# Altium schematic symbol library kmilo17pet-Microchip_MixedSignal.SchLib: 1399 symbols (part 4 of 36)
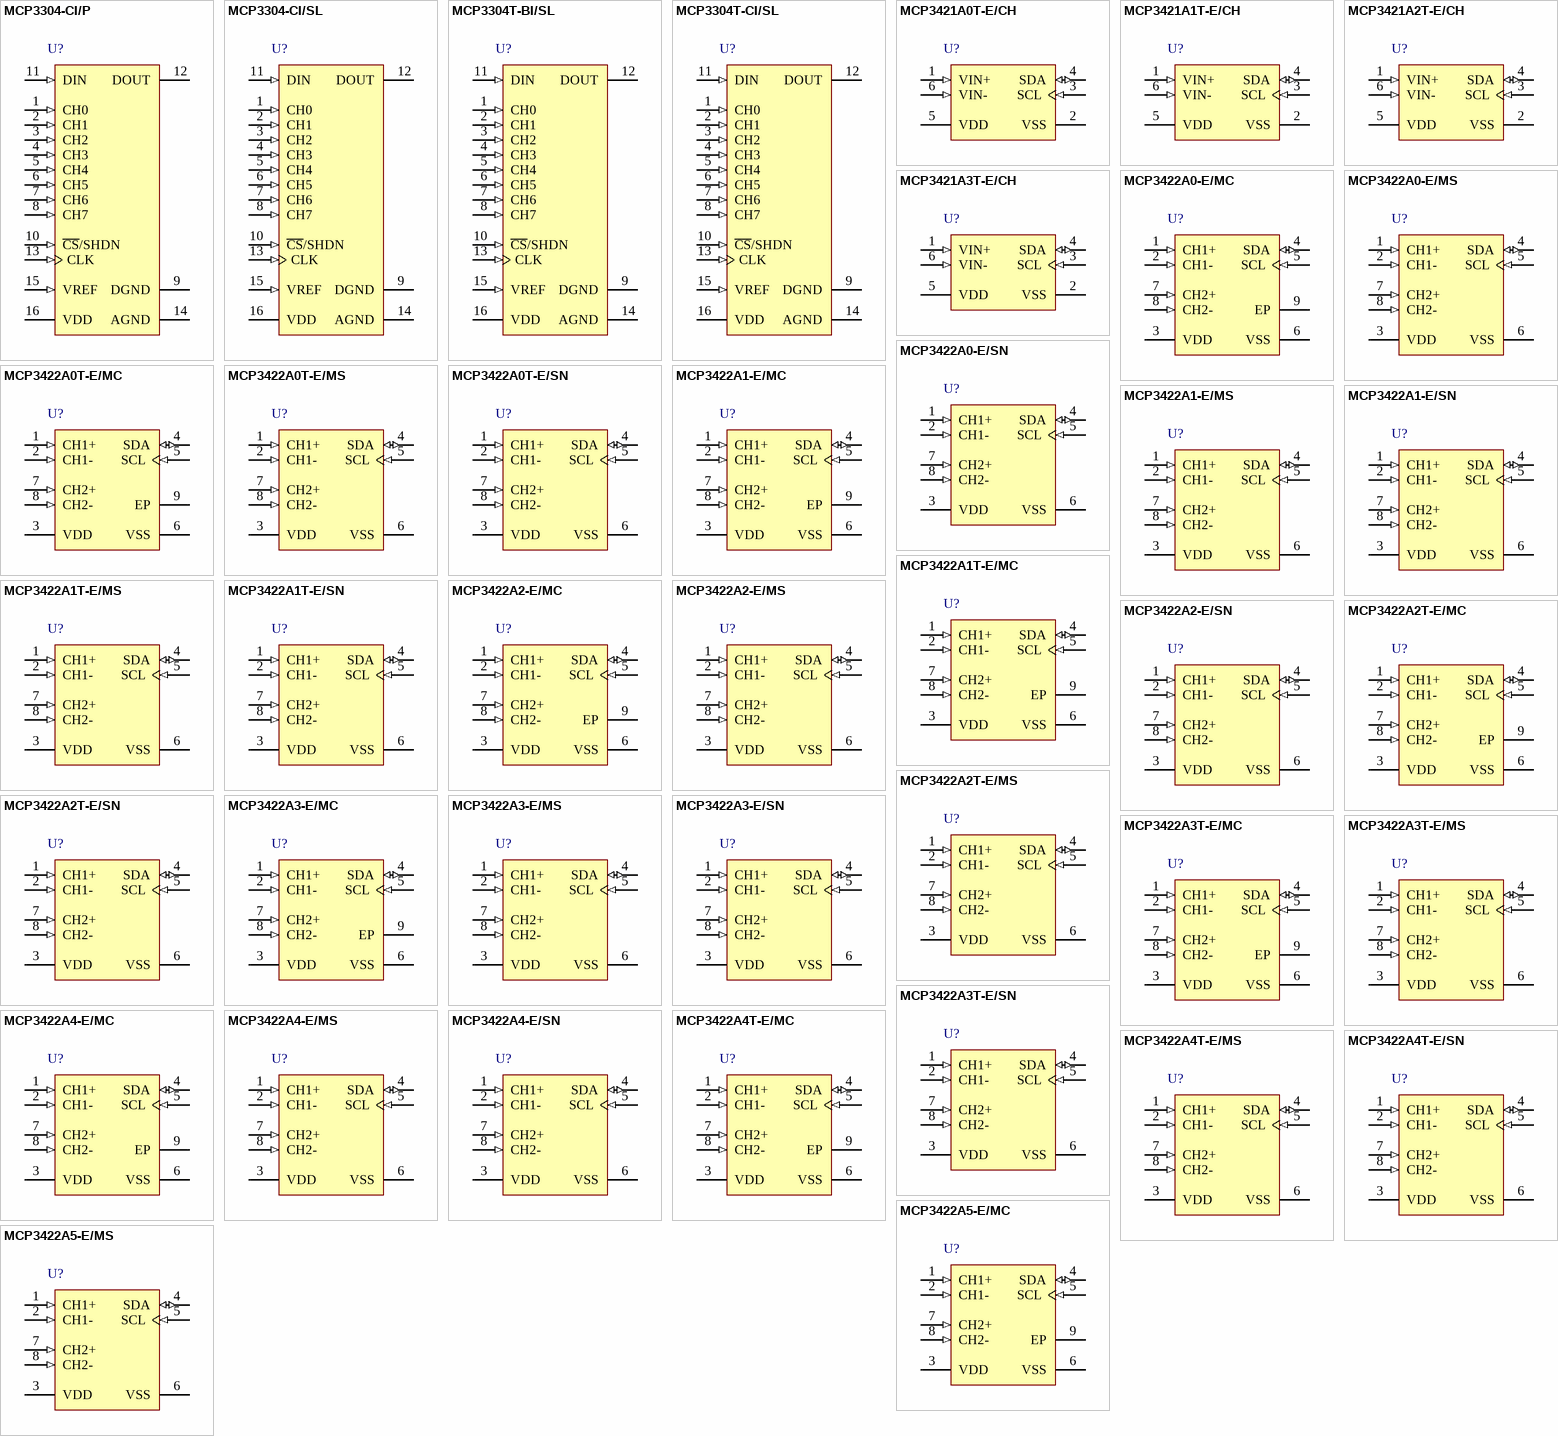
[diagram p47: symbols MCP3304-CI/P to MCP3422A5-E/MS]

## MCP3422A1-E/MC
designator U?
18-Bit, 4-Channel Analog-to-Digital Converter with I2C Interface and On-Board Reference, 8-pin DFN, Extended Temperature; Manufacturer: Microchip; PartNumber: MCP3422A1-E/MC; DatasheetVersion: revC, Aug-2009; PackageVersion: revBB, Aug-2009; PackageReference: DFN-MC8; PackageDescription: 8-Lead Plastic Dual Flat, No Lead Package (MC) - 2x3x0.9mm Body [DFN]; Supplier 1: Digi-Key; Supplier Part Number 1: MCP3422A1-E/MC-ND; Mounting Technology: Surface Mount; ComponentLink1Description: Manufacturer URL; ComponentLink1URL: http://www.microchip.com/; ComponentLink2Description: Datasheet; ComponentLink2URL: http://ww1.microchip.com/downloads/en/DeviceDoc/22088c.pdf; ComponentLink3Description: Package Specification; ComponentLink3URL: http://www.microchip.com/stellent/groups/techpub_sg/documents/packagingspec/en012702.pdf
footprint DFN-MC8 (SON, 8-Leads, Body 2x3mm, Pitch 0.5mm, Microchip Recommended)
pins: 1 CH1+ (in), 2 CH1- (in), 3 VDD (power), 4 SDA (io), 5 SCL (in), 6 VSS (power), 7 CH2+ (in), 8 CH2- (in), 9 EP

## MCP3422A1-E/MS
designator U?
18-Bit, 4-Channel Analog-to-Digital Converter with I2C Interface and On-Board Reference, 8-pin MSOP, Extended Temperature; Manufacturer: Microchip; PartNumber: MCP3422A1-E/MS; DatasheetVersion: revC, Aug-2009; PackageVersion: revBB, Aug-2009; PackageReference: MSOP-MS8; PackageDescription: 8-Lead Plastic Micro Small Outline Package (MS) [MSOP]; Supplier 1: Digi-Key; Supplier Part Number 1: MCP3422A1-E/MS-ND; Mounting Technology: Surface Mount; ComponentLink1Description: Manufacturer URL; ComponentLink1URL: http://www.microchip.com/; ComponentLink2Description: Datasheet; ComponentLink2URL: http://ww1.microchip.com/downloads/en/DeviceDoc/22088c.pdf; ComponentLink3Description: Package Specification; ComponentLink3URL: http://www.microchip.com/stellent/groups/techpub_sg/documents/packagingspec/en012702.pdf
footprint MSOP-MS8_N (TSOP, 8-Leads, Body 3x3mm, Pitch 0.65mm, IPC Medium Density)
footprint MSOP-MS8_L (TSOP, 8-Leads, Body 3x3mm, Pitch 0.65mm, IPC High Density)
footprint MSOP-MS8_M (TSOP, 8-Leads, Body 3x3mm, Pitch 0.65mm, IPC Low Density)
pins: 1 CH1+ (in), 2 CH1- (in), 3 VDD (power), 4 SDA (io), 5 SCL (in), 6 VSS (power), 7 CH2+ (in), 8 CH2- (in)

## MCP3422A1-E/SN
designator U?
18-Bit, 4-Channel Analog-to-Digital Converter with I2C Interface and On-Board Reference, 8-pin SOIC, Extended Temperature; Manufacturer: Microchip; PartNumber: MCP3422A1-E/SN; DatasheetVersion: revC, Aug-2009; PackageVersion: revBB, Aug-2009; PackageReference: SOIC-SN8; PackageDescription: 8-Lead Plastic Small Outline (SN) - Narrow, 3.90mm Body [SOIC]; Supplier 1: Digi-Key; Supplier Part Number 1: MCP3422A1-E/SN-ND; Mounting Technology: Surface Mount; Code_JEDEC: MS-012; Code_IPC: SOIC127P600-8; ComponentLink1Description: Manufacturer URL; ComponentLink1URL: http://www.microchip.com/; ComponentLink2Description: Datasheet; ComponentLink2URL: http://ww1.microchip.com/downloads/en/DeviceDoc/22088c.pdf; ComponentLink3Description: Package Specification; ComponentLink3URL: http://www.microchip.com/stellent/groups/techpub_sg/documents/packagingspec/en012702.pdf
footprint SOIC-SN8_N (SOIC, 8-Leads, Body 4.9x3.8mm, Pitch 1.27mm, IPC Medium Density)
footprint SOIC-SN8_L (SOIC, 8-Leads, Body 4.9x3.8mm, Pitch 1.27mm, IPC High Density)
footprint SOIC-SN8_M (SOIC, 8-Leads, Body 4.9x3.8mm, Pitch 1.27mm, IPC Low Density)
pins: 1 CH1+ (in), 2 CH1- (in), 3 VDD (power), 4 SDA (io), 5 SCL (in), 6 VSS (power), 7 CH2+ (in), 8 CH2- (in)

## MCP3422A1T-E/MC
designator U?
18-Bit, 4-Channel Analog-to-Digital Converter with I2C Interface and On-Board Reference, 8-pin DFN, Extended Temperature, Tape and Reel; Manufacturer: Microchip; PartNumber: MCP3422A1T-E/MC; DatasheetVersion: revC, Aug-2009; PackageVersion: revBB, Aug-2009; PackageReference: DFN-MC8; PackageDescription: 8-Lead Plastic Dual Flat, No Lead Package (MC) - 2x3x0.9mm Body [DFN]; Supplier 1: Digi-Key; Supplier Part Number 1: MCP3422A1T-E/MC-ND; Mounting Technology: Surface Mount; ComponentLink1Description: Manufacturer URL; ComponentLink1URL: http://www.microchip.com/; ComponentLink2Description: Datasheet; ComponentLink2URL: http://ww1.microchip.com/downloads/en/DeviceDoc/22088c.pdf; ComponentLink3Description: Package Specification; ComponentLink3URL: http://www.microchip.com/stellent/groups/techpub_sg/documents/packagingspec/en012702.pdf
footprint DFN-MC8 (SON, 8-Leads, Body 2x3mm, Pitch 0.5mm, Microchip Recommended)
pins: 1 CH1+ (in), 2 CH1- (in), 3 VDD (power), 4 SDA (io), 5 SCL (in), 6 VSS (power), 7 CH2+ (in), 8 CH2- (in), 9 EP

## MCP3422A1T-E/MS
designator U?
18-Bit, 4-Channel Analog-to-Digital Converter with I2C Interface and On-Board Reference, 8-pin MSOP, Extended Temperature, Tape and Reel; Manufacturer: Microchip; PartNumber: MCP3422A1T-E/MS; DatasheetVersion: revC, Aug-2009; PackageVersion: revBB, Aug-2009; PackageReference: MSOP-MS8; PackageDescription: 8-Lead Plastic Micro Small Outline Package (MS) [MSOP]; Supplier 1: Digi-Key; Supplier Part Number 1: MCP3422A1T-E/MS-ND; Mounting Technology: Surface Mount; ComponentLink1Description: Manufacturer URL; ComponentLink1URL: http://www.microchip.com/; ComponentLink2Description: Datasheet; ComponentLink2URL: http://ww1.microchip.com/downloads/en/DeviceDoc/22088c.pdf; ComponentLink3Description: Package Specification; ComponentLink3URL: http://www.microchip.com/stellent/groups/techpub_sg/documents/packagingspec/en012702.pdf
footprint MSOP-MS8_N (TSOP, 8-Leads, Body 3x3mm, Pitch 0.65mm, IPC Medium Density)
footprint MSOP-MS8_L (TSOP, 8-Leads, Body 3x3mm, Pitch 0.65mm, IPC High Density)
footprint MSOP-MS8_M (TSOP, 8-Leads, Body 3x3mm, Pitch 0.65mm, IPC Low Density)
pins: 1 CH1+ (in), 2 CH1- (in), 3 VDD (power), 4 SDA (io), 5 SCL (in), 6 VSS (power), 7 CH2+ (in), 8 CH2- (in)

## MCP3422A1T-E/SN
designator U?
18-Bit, 4-Channel Analog-to-Digital Converter with I2C Interface and On-Board Reference, 8-pin SOIC, Extended Temperature, Tape and Reel; Manufacturer: Microchip; PartNumber: MCP3422A1T-E/SN; DatasheetVersion: revC, Aug-2009; PackageVersion: revBB, Aug-2009; PackageReference: SOIC-SN8; PackageDescription: 8-Lead Plastic Small Outline (SN) - Narrow, 3.90mm Body [SOIC]; Supplier 1: Digi-Key; Supplier Part Number 1: MCP3422A1T-E/SN-ND; Mounting Technology: Surface Mount; Code_JEDEC: MS-012; Code_IPC: SOIC127P600-8; ComponentLink1Description: Manufacturer URL; ComponentLink1URL: http://www.microchip.com/; ComponentLink2Description: Datasheet; ComponentLink2URL: http://ww1.microchip.com/downloads/en/DeviceDoc/22088c.pdf; ComponentLink3Description: Package Specification; ComponentLink3URL: http://www.microchip.com/stellent/groups/techpub_sg/documents/packagingspec/en012702.pdf
footprint SOIC-SN8_N (SOIC, 8-Leads, Body 4.9x3.8mm, Pitch 1.27mm, IPC Medium Density)
footprint SOIC-SN8_L (SOIC, 8-Leads, Body 4.9x3.8mm, Pitch 1.27mm, IPC High Density)
footprint SOIC-SN8_M (SOIC, 8-Leads, Body 4.9x3.8mm, Pitch 1.27mm, IPC Low Density)
pins: 1 CH1+ (in), 2 CH1- (in), 3 VDD (power), 4 SDA (io), 5 SCL (in), 6 VSS (power), 7 CH2+ (in), 8 CH2- (in)

## MCP3422A2-E/MC
designator U?
18-Bit, 4-Channel Analog-to-Digital Converter with I2C Interface and On-Board Reference, 8-pin DFN, Extended Temperature; Manufacturer: Microchip; PartNumber: MCP3422A2-E/MC; DatasheetVersion: revC, Aug-2009; PackageVersion: revBB, Aug-2009; PackageReference: DFN-MC8; PackageDescription: 8-Lead Plastic Dual Flat, No Lead Package (MC) - 2x3x0.9mm Body [DFN]; Supplier 1: Digi-Key; Supplier Part Number 1: MCP3422A2-E/MC-ND; Mounting Technology: Surface Mount; ComponentLink1Description: Manufacturer URL; ComponentLink1URL: http://www.microchip.com/; ComponentLink2Description: Datasheet; ComponentLink2URL: http://ww1.microchip.com/downloads/en/DeviceDoc/22088c.pdf; ComponentLink3Description: Package Specification; ComponentLink3URL: http://www.microchip.com/stellent/groups/techpub_sg/documents/packagingspec/en012702.pdf
footprint DFN-MC8 (SON, 8-Leads, Body 2x3mm, Pitch 0.5mm, Microchip Recommended)
pins: 1 CH1+ (in), 2 CH1- (in), 3 VDD (power), 4 SDA (io), 5 SCL (in), 6 VSS (power), 7 CH2+ (in), 8 CH2- (in), 9 EP

## MCP3422A2-E/MS
designator U?
18-Bit, 4-Channel Analog-to-Digital Converter with I2C Interface and On-Board Reference, 8-pin MSOP, Extended Temperature; Manufacturer: Microchip; PartNumber: MCP3422A2-E/MS; DatasheetVersion: revC, Aug-2009; PackageVersion: revBB, Aug-2009; PackageReference: MSOP-MS8; PackageDescription: 8-Lead Plastic Micro Small Outline Package (MS) [MSOP]; Supplier 1: Digi-Key; Supplier Part Number 1: MCP3422A2-E/MS-ND; Mounting Technology: Surface Mount; ComponentLink1Description: Manufacturer URL; ComponentLink1URL: http://www.microchip.com/; ComponentLink2Description: Datasheet; ComponentLink2URL: http://ww1.microchip.com/downloads/en/DeviceDoc/22088c.pdf; ComponentLink3Description: Package Specification; ComponentLink3URL: http://www.microchip.com/stellent/groups/techpub_sg/documents/packagingspec/en012702.pdf
footprint MSOP-MS8_N (TSOP, 8-Leads, Body 3x3mm, Pitch 0.65mm, IPC Medium Density)
footprint MSOP-MS8_L (TSOP, 8-Leads, Body 3x3mm, Pitch 0.65mm, IPC High Density)
footprint MSOP-MS8_M (TSOP, 8-Leads, Body 3x3mm, Pitch 0.65mm, IPC Low Density)
pins: 1 CH1+ (in), 2 CH1- (in), 3 VDD (power), 4 SDA (io), 5 SCL (in), 6 VSS (power), 7 CH2+ (in), 8 CH2- (in)

## MCP3422A2-E/SN
designator U?
18-Bit, 4-Channel Analog-to-Digital Converter with I2C Interface and On-Board Reference, 8-pin SOIC, Extended Temperature; Manufacturer: Microchip; PartNumber: MCP3422A2-E/SN; DatasheetVersion: revC, Aug-2009; PackageVersion: revBB, Aug-2009; PackageReference: SOIC-SN8; PackageDescription: 8-Lead Plastic Small Outline (SN) - Narrow, 3.90mm Body [SOIC]; Supplier 1: Digi-Key; Supplier Part Number 1: MCP3422A2-E/SN-ND; Mounting Technology: Surface Mount; Code_JEDEC: MS-012; Code_IPC: SOIC127P600-8; ComponentLink1Description: Manufacturer URL; ComponentLink1URL: http://www.microchip.com/; ComponentLink2Description: Datasheet; ComponentLink2URL: http://ww1.microchip.com/downloads/en/DeviceDoc/22088c.pdf; ComponentLink3Description: Package Specification; ComponentLink3URL: http://www.microchip.com/stellent/groups/techpub_sg/documents/packagingspec/en012702.pdf
footprint SOIC-SN8_N (SOIC, 8-Leads, Body 4.9x3.8mm, Pitch 1.27mm, IPC Medium Density)
footprint SOIC-SN8_L (SOIC, 8-Leads, Body 4.9x3.8mm, Pitch 1.27mm, IPC High Density)
footprint SOIC-SN8_M (SOIC, 8-Leads, Body 4.9x3.8mm, Pitch 1.27mm, IPC Low Density)
pins: 1 CH1+ (in), 2 CH1- (in), 3 VDD (power), 4 SDA (io), 5 SCL (in), 6 VSS (power), 7 CH2+ (in), 8 CH2- (in)

## MCP3422A2T-E/MC
designator U?
18-Bit, 4-Channel Analog-to-Digital Converter with I2C Interface and On-Board Reference, 8-pin DFN, Extended Temperature, Tape and Reel; Manufacturer: Microchip; PartNumber: MCP3422A2T-E/MC; DatasheetVersion: revC, Aug-2009; PackageVersion: revBB, Aug-2009; PackageReference: DFN-MC8; PackageDescription: 8-Lead Plastic Dual Flat, No Lead Package (MC) - 2x3x0.9mm Body [DFN]; Supplier 1: Digi-Key; Supplier Part Number 1: MCP3422A2T-E/MC-ND; Mounting Technology: Surface Mount; ComponentLink1Description: Manufacturer URL; ComponentLink1URL: http://www.microchip.com/; ComponentLink2Description: Datasheet; ComponentLink2URL: http://ww1.microchip.com/downloads/en/DeviceDoc/22088c.pdf; ComponentLink3Description: Package Specification; ComponentLink3URL: http://www.microchip.com/stellent/groups/techpub_sg/documents/packagingspec/en012702.pdf
footprint DFN-MC8 (SON, 8-Leads, Body 2x3mm, Pitch 0.5mm, Microchip Recommended)
pins: 1 CH1+ (in), 2 CH1- (in), 3 VDD (power), 4 SDA (io), 5 SCL (in), 6 VSS (power), 7 CH2+ (in), 8 CH2- (in), 9 EP

## MCP3422A2T-E/MS
designator U?
18-Bit, 4-Channel Analog-to-Digital Converter with I2C Interface and On-Board Reference, 8-pin MSOP, Extended Temperature, Tape and Reel; Manufacturer: Microchip; PartNumber: MCP3422A2T-E/MS; DatasheetVersion: revC, Aug-2009; PackageVersion: revBB, Aug-2009; PackageReference: MSOP-MS8; PackageDescription: 8-Lead Plastic Micro Small Outline Package (MS) [MSOP]; Supplier 1: Digi-Key; Supplier Part Number 1: MCP3422A2T-E/MS-ND; Mounting Technology: Surface Mount; ComponentLink1Description: Manufacturer URL; ComponentLink1URL: http://www.microchip.com/; ComponentLink2Description: Datasheet; ComponentLink2URL: http://ww1.microchip.com/downloads/en/DeviceDoc/22088c.pdf; ComponentLink3Description: Package Specification; ComponentLink3URL: http://www.microchip.com/stellent/groups/techpub_sg/documents/packagingspec/en012702.pdf
footprint MSOP-MS8_N (TSOP, 8-Leads, Body 3x3mm, Pitch 0.65mm, IPC Medium Density)
footprint MSOP-MS8_L (TSOP, 8-Leads, Body 3x3mm, Pitch 0.65mm, IPC High Density)
footprint MSOP-MS8_M (TSOP, 8-Leads, Body 3x3mm, Pitch 0.65mm, IPC Low Density)
pins: 1 CH1+ (in), 2 CH1- (in), 3 VDD (power), 4 SDA (io), 5 SCL (in), 6 VSS (power), 7 CH2+ (in), 8 CH2- (in)

## MCP3422A2T-E/SN
designator U?
18-Bit, 4-Channel Analog-to-Digital Converter with I2C Interface and On-Board Reference, 8-pin SOIC, Extended Temperature, Tape and Reel; Manufacturer: Microchip; PartNumber: MCP3422A2T-E/SN; DatasheetVersion: revC, Aug-2009; PackageVersion: revBB, Aug-2009; PackageReference: SOIC-SN8; PackageDescription: 8-Lead Plastic Small Outline (SN) - Narrow, 3.90mm Body [SOIC]; Supplier 1: Digi-Key; Supplier Part Number 1: MCP3422A2T-E/SN-ND; Mounting Technology: Surface Mount; Code_JEDEC: MS-012; Code_IPC: SOIC127P600-8; ComponentLink1Description: Manufacturer URL; ComponentLink1URL: http://www.microchip.com/; ComponentLink2Description: Datasheet; ComponentLink2URL: http://ww1.microchip.com/downloads/en/DeviceDoc/22088c.pdf; ComponentLink3Description: Package Specification; ComponentLink3URL: http://www.microchip.com/stellent/groups/techpub_sg/documents/packagingspec/en012702.pdf
footprint SOIC-SN8_N (SOIC, 8-Leads, Body 4.9x3.8mm, Pitch 1.27mm, IPC Medium Density)
footprint SOIC-SN8_L (SOIC, 8-Leads, Body 4.9x3.8mm, Pitch 1.27mm, IPC High Density)
footprint SOIC-SN8_M (SOIC, 8-Leads, Body 4.9x3.8mm, Pitch 1.27mm, IPC Low Density)
pins: 1 CH1+ (in), 2 CH1- (in), 3 VDD (power), 4 SDA (io), 5 SCL (in), 6 VSS (power), 7 CH2+ (in), 8 CH2- (in)

## MCP3422A3-E/MC
designator U?
18-Bit, 4-Channel Analog-to-Digital Converter with I2C Interface and On-Board Reference, 8-pin DFN, Extended Temperature; Manufacturer: Microchip; PartNumber: MCP3422A3-E/MC; DatasheetVersion: revC, Aug-2009; PackageVersion: revBB, Aug-2009; PackageReference: DFN-MC8; PackageDescription: 8-Lead Plastic Dual Flat, No Lead Package (MC) - 2x3x0.9mm Body [DFN]; Supplier 1: Digi-Key; Supplier Part Number 1: MCP3422A3-E/MC-ND; Mounting Technology: Surface Mount; ComponentLink1Description: Manufacturer URL; ComponentLink1URL: http://www.microchip.com/; ComponentLink2Description: Datasheet; ComponentLink2URL: http://ww1.microchip.com/downloads/en/DeviceDoc/22088c.pdf; ComponentLink3Description: Package Specification; ComponentLink3URL: http://www.microchip.com/stellent/groups/techpub_sg/documents/packagingspec/en012702.pdf
footprint DFN-MC8 (SON, 8-Leads, Body 2x3mm, Pitch 0.5mm, Microchip Recommended)
pins: 1 CH1+ (in), 2 CH1- (in), 3 VDD (power), 4 SDA (io), 5 SCL (in), 6 VSS (power), 7 CH2+ (in), 8 CH2- (in), 9 EP

## MCP3422A3-E/MS
designator U?
18-Bit, 4-Channel Analog-to-Digital Converter with I2C Interface and On-Board Reference, 8-pin MSOP, Extended Temperature; Manufacturer: Microchip; PartNumber: MCP3422A3-E/MS; DatasheetVersion: revC, Aug-2009; PackageVersion: revBB, Aug-2009; PackageReference: MSOP-MS8; PackageDescription: 8-Lead Plastic Micro Small Outline Package (MS) [MSOP]; Supplier 1: Digi-Key; Supplier Part Number 1: MCP3422A3-E/MS-ND; Mounting Technology: Surface Mount; ComponentLink1Description: Manufacturer URL; ComponentLink1URL: http://www.microchip.com/; ComponentLink2Description: Datasheet; ComponentLink2URL: http://ww1.microchip.com/downloads/en/DeviceDoc/22088c.pdf; ComponentLink3Description: Package Specification; ComponentLink3URL: http://www.microchip.com/stellent/groups/techpub_sg/documents/packagingspec/en012702.pdf
footprint MSOP-MS8_N (TSOP, 8-Leads, Body 3x3mm, Pitch 0.65mm, IPC Medium Density)
footprint MSOP-MS8_L (TSOP, 8-Leads, Body 3x3mm, Pitch 0.65mm, IPC High Density)
footprint MSOP-MS8_M (TSOP, 8-Leads, Body 3x3mm, Pitch 0.65mm, IPC Low Density)
pins: 1 CH1+ (in), 2 CH1- (in), 3 VDD (power), 4 SDA (io), 5 SCL (in), 6 VSS (power), 7 CH2+ (in), 8 CH2- (in)

## MCP3422A3-E/SN
designator U?
18-Bit, 4-Channel Analog-to-Digital Converter with I2C Interface and On-Board Reference, 8-pin SOIC, Extended Temperature; Manufacturer: Microchip; PartNumber: MCP3422A3-E/SN; DatasheetVersion: revC, Aug-2009; PackageVersion: revBB, Aug-2009; PackageReference: SOIC-SN8; PackageDescription: 8-Lead Plastic Small Outline (SN) - Narrow, 3.90mm Body [SOIC]; Supplier 1: Digi-Key; Supplier Part Number 1: MCP3422A3-E/SN-ND; Mounting Technology: Surface Mount; Code_JEDEC: MS-012; Code_IPC: SOIC127P600-8; ComponentLink1Description: Manufacturer URL; ComponentLink1URL: http://www.microchip.com/; ComponentLink2Description: Datasheet; ComponentLink2URL: http://ww1.microchip.com/downloads/en/DeviceDoc/22088c.pdf; ComponentLink3Description: Package Specification; ComponentLink3URL: http://www.microchip.com/stellent/groups/techpub_sg/documents/packagingspec/en012702.pdf
footprint SOIC-SN8_N (SOIC, 8-Leads, Body 4.9x3.8mm, Pitch 1.27mm, IPC Medium Density)
footprint SOIC-SN8_L (SOIC, 8-Leads, Body 4.9x3.8mm, Pitch 1.27mm, IPC High Density)
footprint SOIC-SN8_M (SOIC, 8-Leads, Body 4.9x3.8mm, Pitch 1.27mm, IPC Low Density)
pins: 1 CH1+ (in), 2 CH1- (in), 3 VDD (power), 4 SDA (io), 5 SCL (in), 6 VSS (power), 7 CH2+ (in), 8 CH2- (in)

## MCP3422A3T-E/MC
designator U?
18-Bit, 4-Channel Analog-to-Digital Converter with I2C Interface and On-Board Reference, 8-pin DFN, Extended Temperature, Tape and Reel; Manufacturer: Microchip; PartNumber: MCP3422A3T-E/MC; DatasheetVersion: revC, Aug-2009; PackageVersion: revBB, Aug-2009; PackageReference: DFN-MC8; PackageDescription: 8-Lead Plastic Dual Flat, No Lead Package (MC) - 2x3x0.9mm Body [DFN]; Supplier 1: Digi-Key; Supplier Part Number 1: MCP3422A3T-E/MC-ND; Mounting Technology: Surface Mount; ComponentLink1Description: Manufacturer URL; ComponentLink1URL: http://www.microchip.com/; ComponentLink2Description: Datasheet; ComponentLink2URL: http://ww1.microchip.com/downloads/en/DeviceDoc/22088c.pdf; ComponentLink3Description: Package Specification; ComponentLink3URL: http://www.microchip.com/stellent/groups/techpub_sg/documents/packagingspec/en012702.pdf
footprint DFN-MC8 (SON, 8-Leads, Body 2x3mm, Pitch 0.5mm, Microchip Recommended)
pins: 1 CH1+ (in), 2 CH1- (in), 3 VDD (power), 4 SDA (io), 5 SCL (in), 6 VSS (power), 7 CH2+ (in), 8 CH2- (in), 9 EP

## MCP3422A3T-E/MS
designator U?
18-Bit, 4-Channel Analog-to-Digital Converter with I2C Interface and On-Board Reference, 8-pin MSOP, Extended Temperature, Tape and Reel; Manufacturer: Microchip; PartNumber: MCP3422A3T-E/MS; DatasheetVersion: revC, Aug-2009; PackageVersion: revBB, Aug-2009; PackageReference: MSOP-MS8; PackageDescription: 8-Lead Plastic Micro Small Outline Package (MS) [MSOP]; Supplier 1: Digi-Key; Supplier Part Number 1: MCP3422A3T-E/MS-ND; Mounting Technology: Surface Mount; ComponentLink1Description: Manufacturer URL; ComponentLink1URL: http://www.microchip.com/; ComponentLink2Description: Datasheet; ComponentLink2URL: http://ww1.microchip.com/downloads/en/DeviceDoc/22088c.pdf; ComponentLink3Description: Package Specification; ComponentLink3URL: http://www.microchip.com/stellent/groups/techpub_sg/documents/packagingspec/en012702.pdf
footprint MSOP-MS8_N (TSOP, 8-Leads, Body 3x3mm, Pitch 0.65mm, IPC Medium Density)
footprint MSOP-MS8_L (TSOP, 8-Leads, Body 3x3mm, Pitch 0.65mm, IPC High Density)
footprint MSOP-MS8_M (TSOP, 8-Leads, Body 3x3mm, Pitch 0.65mm, IPC Low Density)
pins: 1 CH1+ (in), 2 CH1- (in), 3 VDD (power), 4 SDA (io), 5 SCL (in), 6 VSS (power), 7 CH2+ (in), 8 CH2- (in)

## MCP3422A3T-E/SN
designator U?
18-Bit, 4-Channel Analog-to-Digital Converter with I2C Interface and On-Board Reference, 8-pin SOIC, Extended Temperature, Tape and Reel; Manufacturer: Microchip; PartNumber: MCP3422A3T-E/SN; DatasheetVersion: revC, Aug-2009; PackageVersion: revBB, Aug-2009; PackageReference: SOIC-SN8; PackageDescription: 8-Lead Plastic Small Outline (SN) - Narrow, 3.90mm Body [SOIC]; Supplier 1: Digi-Key; Supplier Part Number 1: MCP3422A3T-E/SN-ND; Mounting Technology: Surface Mount; Code_JEDEC: MS-012; Code_IPC: SOIC127P600-8; ComponentLink1Description: Manufacturer URL; ComponentLink1URL: http://www.microchip.com/; ComponentLink2Description: Datasheet; ComponentLink2URL: http://ww1.microchip.com/downloads/en/DeviceDoc/22088c.pdf; ComponentLink3Description: Package Specification; ComponentLink3URL: http://www.microchip.com/stellent/groups/techpub_sg/documents/packagingspec/en012702.pdf
footprint SOIC-SN8_N (SOIC, 8-Leads, Body 4.9x3.8mm, Pitch 1.27mm, IPC Medium Density)
footprint SOIC-SN8_L (SOIC, 8-Leads, Body 4.9x3.8mm, Pitch 1.27mm, IPC High Density)
footprint SOIC-SN8_M (SOIC, 8-Leads, Body 4.9x3.8mm, Pitch 1.27mm, IPC Low Density)
pins: 1 CH1+ (in), 2 CH1- (in), 3 VDD (power), 4 SDA (io), 5 SCL (in), 6 VSS (power), 7 CH2+ (in), 8 CH2- (in)

## MCP3422A4-E/MC
designator U?
18-Bit, 4-Channel Analog-to-Digital Converter with I2C Interface and On-Board Reference, 8-pin DFN, Extended Temperature; Manufacturer: Microchip; PartNumber: MCP3422A4-E/MC; DatasheetVersion: revC, Aug-2009; PackageVersion: revBB, Aug-2009; PackageReference: DFN-MC8; PackageDescription: 8-Lead Plastic Dual Flat, No Lead Package (MC) - 2x3x0.9mm Body [DFN]; Supplier 1: Digi-Key; Supplier Part Number 1: MCP3422A4-E/MC-ND; Mounting Technology: Surface Mount; ComponentLink1Description: Manufacturer URL; ComponentLink1URL: http://www.microchip.com/; ComponentLink2Description: Datasheet; ComponentLink2URL: http://ww1.microchip.com/downloads/en/DeviceDoc/22088c.pdf; ComponentLink3Description: Package Specification; ComponentLink3URL: http://www.microchip.com/stellent/groups/techpub_sg/documents/packagingspec/en012702.pdf
footprint DFN-MC8 (SON, 8-Leads, Body 2x3mm, Pitch 0.5mm, Microchip Recommended)
pins: 1 CH1+ (in), 2 CH1- (in), 3 VDD (power), 4 SDA (io), 5 SCL (in), 6 VSS (power), 7 CH2+ (in), 8 CH2- (in), 9 EP

## MCP3422A4-E/MS
designator U?
18-Bit, 4-Channel Analog-to-Digital Converter with I2C Interface and On-Board Reference, 8-pin MSOP, Extended Temperature; Manufacturer: Microchip; PartNumber: MCP3422A4-E/MS; DatasheetVersion: revC, Aug-2009; PackageVersion: revBB, Aug-2009; PackageReference: MSOP-MS8; PackageDescription: 8-Lead Plastic Micro Small Outline Package (MS) [MSOP]; Supplier 1: Digi-Key; Supplier Part Number 1: MCP3422A4-E/MS-ND; Mounting Technology: Surface Mount; ComponentLink1Description: Manufacturer URL; ComponentLink1URL: http://www.microchip.com/; ComponentLink2Description: Datasheet; ComponentLink2URL: http://ww1.microchip.com/downloads/en/DeviceDoc/22088c.pdf; ComponentLink3Description: Package Specification; ComponentLink3URL: http://www.microchip.com/stellent/groups/techpub_sg/documents/packagingspec/en012702.pdf
footprint MSOP-MS8_N (TSOP, 8-Leads, Body 3x3mm, Pitch 0.65mm, IPC Medium Density)
footprint MSOP-MS8_L (TSOP, 8-Leads, Body 3x3mm, Pitch 0.65mm, IPC High Density)
footprint MSOP-MS8_M (TSOP, 8-Leads, Body 3x3mm, Pitch 0.65mm, IPC Low Density)
pins: 1 CH1+ (in), 2 CH1- (in), 3 VDD (power), 4 SDA (io), 5 SCL (in), 6 VSS (power), 7 CH2+ (in), 8 CH2- (in)

## MCP3422A4-E/SN
designator U?
18-Bit, 4-Channel Analog-to-Digital Converter with I2C Interface and On-Board Reference, 8-pin SOIC, Extended Temperature; Manufacturer: Microchip; PartNumber: MCP3422A4-E/SN; DatasheetVersion: revC, Aug-2009; PackageVersion: revBB, Aug-2009; PackageReference: SOIC-SN8; PackageDescription: 8-Lead Plastic Small Outline (SN) - Narrow, 3.90mm Body [SOIC]; Supplier 1: Digi-Key; Supplier Part Number 1: MCP3422A4-E/SN-ND; Mounting Technology: Surface Mount; Code_JEDEC: MS-012; Code_IPC: SOIC127P600-8; ComponentLink1Description: Manufacturer URL; ComponentLink1URL: http://www.microchip.com/; ComponentLink2Description: Datasheet; ComponentLink2URL: http://ww1.microchip.com/downloads/en/DeviceDoc/22088c.pdf; ComponentLink3Description: Package Specification; ComponentLink3URL: http://www.microchip.com/stellent/groups/techpub_sg/documents/packagingspec/en012702.pdf
footprint SOIC-SN8_N (SOIC, 8-Leads, Body 4.9x3.8mm, Pitch 1.27mm, IPC Medium Density)
footprint SOIC-SN8_L (SOIC, 8-Leads, Body 4.9x3.8mm, Pitch 1.27mm, IPC High Density)
footprint SOIC-SN8_M (SOIC, 8-Leads, Body 4.9x3.8mm, Pitch 1.27mm, IPC Low Density)
pins: 1 CH1+ (in), 2 CH1- (in), 3 VDD (power), 4 SDA (io), 5 SCL (in), 6 VSS (power), 7 CH2+ (in), 8 CH2- (in)

## MCP3422A4T-E/MC
designator U?
18-Bit, 4-Channel Analog-to-Digital Converter with I2C Interface and On-Board Reference, 8-pin DFN, Extended Temperature, Tape and Reel; Manufacturer: Microchip; PartNumber: MCP3422A4T-E/MC; DatasheetVersion: revC, Aug-2009; PackageVersion: revBB, Aug-2009; PackageReference: DFN-MC8; PackageDescription: 8-Lead Plastic Dual Flat, No Lead Package (MC) - 2x3x0.9mm Body [DFN]; Supplier 1: Digi-Key; Supplier Part Number 1: MCP3422A4T-E/MC-ND; Mounting Technology: Surface Mount; ComponentLink1Description: Manufacturer URL; ComponentLink1URL: http://www.microchip.com/; ComponentLink2Description: Datasheet; ComponentLink2URL: http://ww1.microchip.com/downloads/en/DeviceDoc/22088c.pdf; ComponentLink3Description: Package Specification; ComponentLink3URL: http://www.microchip.com/stellent/groups/techpub_sg/documents/packagingspec/en012702.pdf
footprint DFN-MC8 (SON, 8-Leads, Body 2x3mm, Pitch 0.5mm, Microchip Recommended)
pins: 1 CH1+ (in), 2 CH1- (in), 3 VDD (power), 4 SDA (io), 5 SCL (in), 6 VSS (power), 7 CH2+ (in), 8 CH2- (in), 9 EP

## MCP3422A4T-E/MS
designator U?
18-Bit, 4-Channel Analog-to-Digital Converter with I2C Interface and On-Board Reference, 8-pin MSOP, Extended Temperature, Tape and Reel; Manufacturer: Microchip; PartNumber: MCP3422A4T-E/MS; DatasheetVersion: revC, Aug-2009; PackageVersion: revBB, Aug-2009; PackageReference: MSOP-MS8; PackageDescription: 8-Lead Plastic Micro Small Outline Package (MS) [MSOP]; Supplier 1: Digi-Key; Supplier Part Number 1: MCP3422A4T-E/MS-ND; Mounting Technology: Surface Mount; ComponentLink1Description: Manufacturer URL; ComponentLink1URL: http://www.microchip.com/; ComponentLink2Description: Datasheet; ComponentLink2URL: http://ww1.microchip.com/downloads/en/DeviceDoc/22088c.pdf; ComponentLink3Description: Package Specification; ComponentLink3URL: http://www.microchip.com/stellent/groups/techpub_sg/documents/packagingspec/en012702.pdf
footprint MSOP-MS8_N (TSOP, 8-Leads, Body 3x3mm, Pitch 0.65mm, IPC Medium Density)
footprint MSOP-MS8_L (TSOP, 8-Leads, Body 3x3mm, Pitch 0.65mm, IPC High Density)
footprint MSOP-MS8_M (TSOP, 8-Leads, Body 3x3mm, Pitch 0.65mm, IPC Low Density)
pins: 1 CH1+ (in), 2 CH1- (in), 3 VDD (power), 4 SDA (io), 5 SCL (in), 6 VSS (power), 7 CH2+ (in), 8 CH2- (in)

## MCP3422A4T-E/SN
designator U?
18-Bit, 4-Channel Analog-to-Digital Converter with I2C Interface and On-Board Reference, 8-pin SOIC, Extended Temperature, Tape and Reel; Manufacturer: Microchip; PartNumber: MCP3422A4T-E/SN; DatasheetVersion: revC, Aug-2009; PackageVersion: revBB, Aug-2009; PackageReference: SOIC-SN8; PackageDescription: 8-Lead Plastic Small Outline (SN) - Narrow, 3.90mm Body [SOIC]; Supplier 1: Digi-Key; Supplier Part Number 1: MCP3422A4T-E/SN-ND; Mounting Technology: Surface Mount; Code_JEDEC: MS-012; Code_IPC: SOIC127P600-8; ComponentLink1Description: Manufacturer URL; ComponentLink1URL: http://www.microchip.com/; ComponentLink2Description: Datasheet; ComponentLink2URL: http://ww1.microchip.com/downloads/en/DeviceDoc/22088c.pdf; ComponentLink3Description: Package Specification; ComponentLink3URL: http://www.microchip.com/stellent/groups/techpub_sg/documents/packagingspec/en012702.pdf
footprint SOIC-SN8_N (SOIC, 8-Leads, Body 4.9x3.8mm, Pitch 1.27mm, IPC Medium Density)
footprint SOIC-SN8_L (SOIC, 8-Leads, Body 4.9x3.8mm, Pitch 1.27mm, IPC High Density)
footprint SOIC-SN8_M (SOIC, 8-Leads, Body 4.9x3.8mm, Pitch 1.27mm, IPC Low Density)
pins: 1 CH1+ (in), 2 CH1- (in), 3 VDD (power), 4 SDA (io), 5 SCL (in), 6 VSS (power), 7 CH2+ (in), 8 CH2- (in)

## MCP3422A5-E/MC
designator U?
18-Bit, 4-Channel Analog-to-Digital Converter with I2C Interface and On-Board Reference, 8-pin DFN, Extended Temperature; Manufacturer: Microchip; PartNumber: MCP3422A5-E/MC; DatasheetVersion: revC, Aug-2009; PackageVersion: revBB, Aug-2009; PackageReference: DFN-MC8; PackageDescription: 8-Lead Plastic Dual Flat, No Lead Package (MC) - 2x3x0.9mm Body [DFN]; Supplier 1: Digi-Key; Supplier Part Number 1: MCP3422A5-E/MC-ND; Mounting Technology: Surface Mount; ComponentLink1Description: Manufacturer URL; ComponentLink1URL: http://www.microchip.com/; ComponentLink2Description: Datasheet; ComponentLink2URL: http://ww1.microchip.com/downloads/en/DeviceDoc/22088c.pdf; ComponentLink3Description: Package Specification; ComponentLink3URL: http://www.microchip.com/stellent/groups/techpub_sg/documents/packagingspec/en012702.pdf
footprint DFN-MC8 (SON, 8-Leads, Body 2x3mm, Pitch 0.5mm, Microchip Recommended)
pins: 1 CH1+ (in), 2 CH1- (in), 3 VDD (power), 4 SDA (io), 5 SCL (in), 6 VSS (power), 7 CH2+ (in), 8 CH2- (in), 9 EP

## MCP3422A5-E/MS
designator U?
18-Bit, 4-Channel Analog-to-Digital Converter with I2C Interface and On-Board Reference, 8-pin MSOP, Extended Temperature; Manufacturer: Microchip; PartNumber: MCP3422A5-E/MS; DatasheetVersion: revC, Aug-2009; PackageVersion: revBB, Aug-2009; PackageReference: MSOP-MS8; PackageDescription: 8-Lead Plastic Micro Small Outline Package (MS) [MSOP]; Supplier 1: Digi-Key; Supplier Part Number 1: MCP3422A5-E/MS-ND; Mounting Technology: Surface Mount; ComponentLink1Description: Manufacturer URL; ComponentLink1URL: http://www.microchip.com/; ComponentLink2Description: Datasheet; ComponentLink2URL: http://ww1.microchip.com/downloads/en/DeviceDoc/22088c.pdf; ComponentLink3Description: Package Specification; ComponentLink3URL: http://www.microchip.com/stellent/groups/techpub_sg/documents/packagingspec/en012702.pdf
footprint MSOP-MS8_N (TSOP, 8-Leads, Body 3x3mm, Pitch 0.65mm, IPC Medium Density)
footprint MSOP-MS8_L (TSOP, 8-Leads, Body 3x3mm, Pitch 0.65mm, IPC High Density)
footprint MSOP-MS8_M (TSOP, 8-Leads, Body 3x3mm, Pitch 0.65mm, IPC Low Density)
pins: 1 CH1+ (in), 2 CH1- (in), 3 VDD (power), 4 SDA (io), 5 SCL (in), 6 VSS (power), 7 CH2+ (in), 8 CH2- (in)

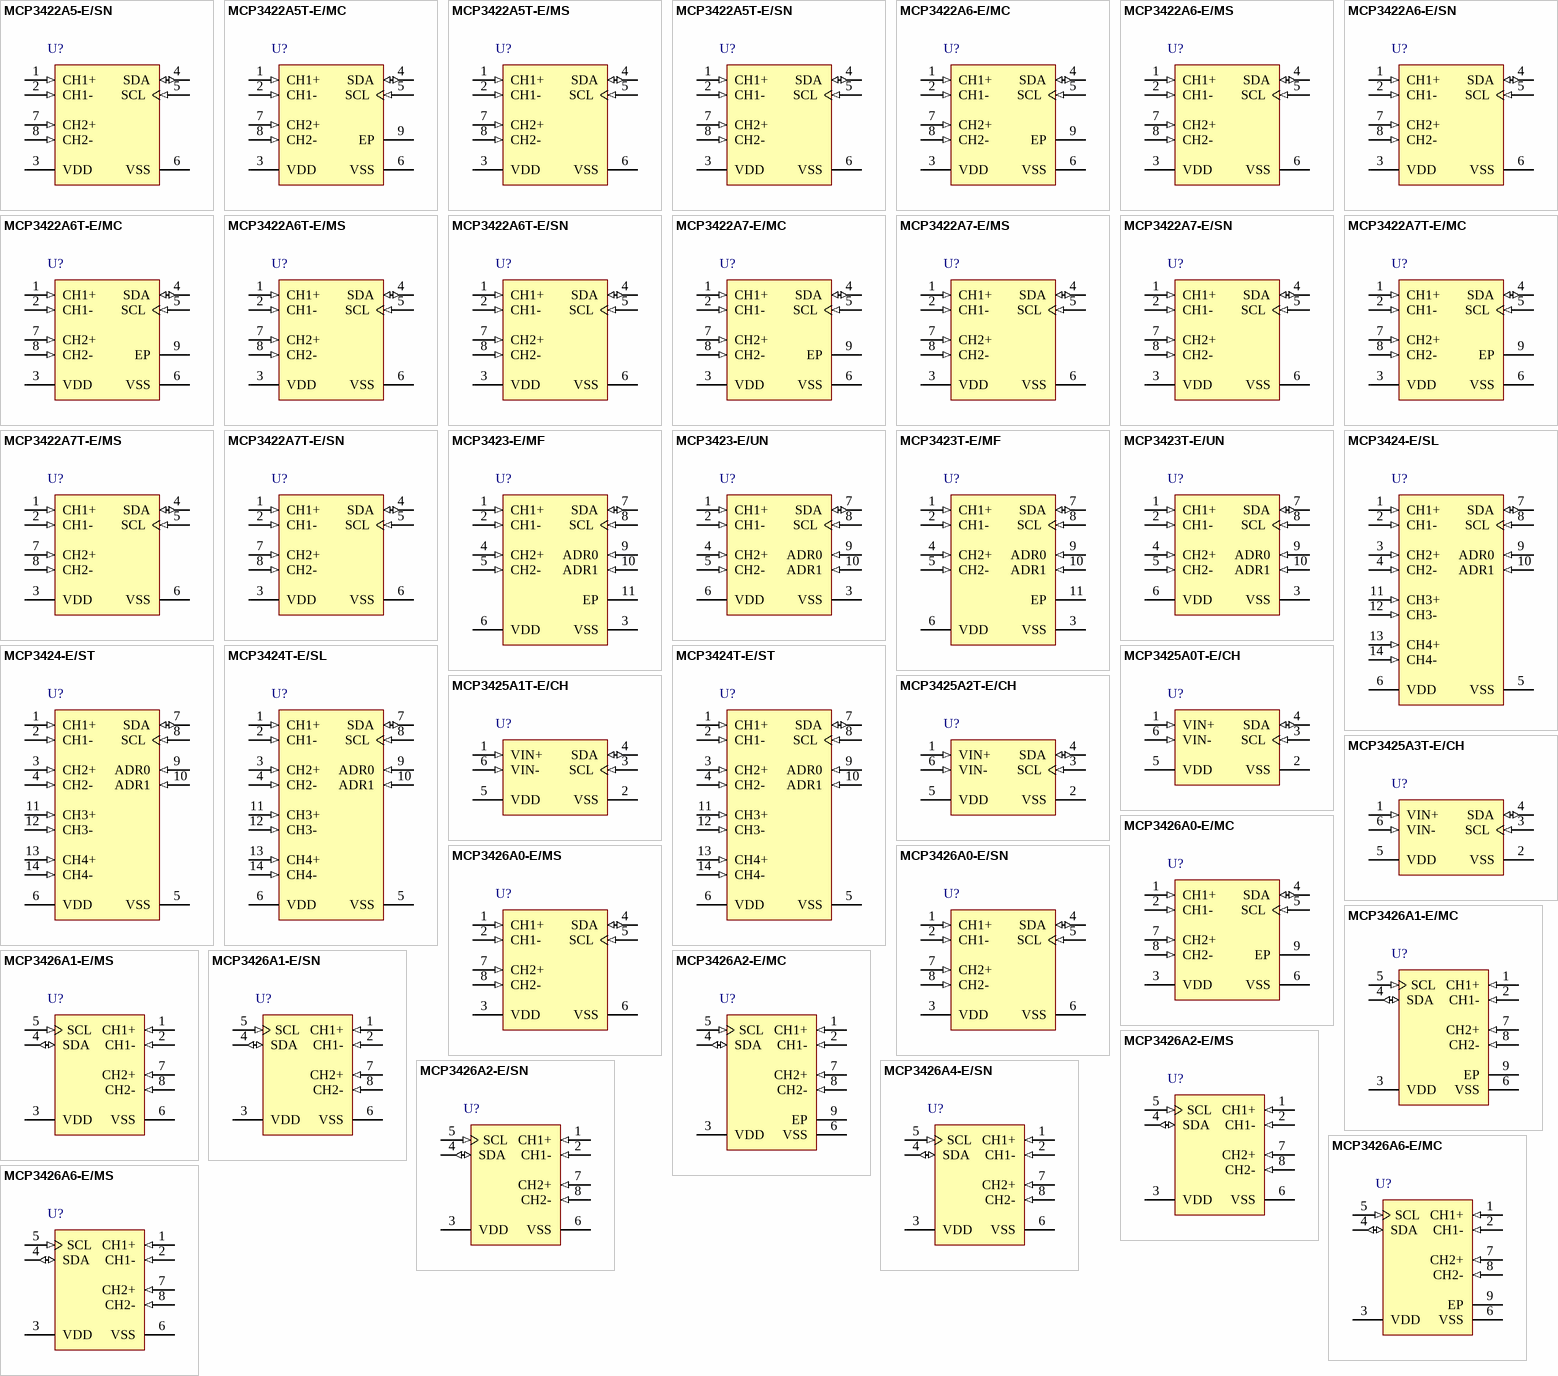
[diagram p4: symbols MCP3422A5-E/SN to MCP3426A6-E/MS]

## MCP3422A5-E/SN
designator U?
18-Bit, 4-Channel Analog-to-Digital Converter with I2C Interface and On-Board Reference, 8-pin SOIC, Extended Temperature; Manufacturer: Microchip; PartNumber: MCP3422A5-E/SN; DatasheetVersion: revC, Aug-2009; PackageVersion: revBB, Aug-2009; PackageReference: SOIC-SN8; PackageDescription: 8-Lead Plastic Small Outline (SN) - Narrow, 3.90mm Body [SOIC]; Supplier 1: Digi-Key; Supplier Part Number 1: MCP3422A5-E/SN-ND; Mounting Technology: Surface Mount; Code_JEDEC: MS-012; Code_IPC: SOIC127P600-8; ComponentLink1Description: Manufacturer URL; ComponentLink1URL: http://www.microchip.com/; ComponentLink2Description: Datasheet; ComponentLink2URL: http://ww1.microchip.com/downloads/en/DeviceDoc/22088c.pdf; ComponentLink3Description: Package Specification; ComponentLink3URL: http://www.microchip.com/stellent/groups/techpub_sg/documents/packagingspec/en012702.pdf
footprint SOIC-SN8_N (SOIC, 8-Leads, Body 4.9x3.8mm, Pitch 1.27mm, IPC Medium Density)
footprint SOIC-SN8_L (SOIC, 8-Leads, Body 4.9x3.8mm, Pitch 1.27mm, IPC High Density)
footprint SOIC-SN8_M (SOIC, 8-Leads, Body 4.9x3.8mm, Pitch 1.27mm, IPC Low Density)
pins: 1 CH1+ (in), 2 CH1- (in), 3 VDD (power), 4 SDA (io), 5 SCL (in), 6 VSS (power), 7 CH2+ (in), 8 CH2- (in)

## MCP3422A5T-E/MC
designator U?
18-Bit, 4-Channel Analog-to-Digital Converter with I2C Interface and On-Board Reference, 8-pin DFN, Extended Temperature, Tape and Reel; Manufacturer: Microchip; PartNumber: MCP3422A5T-E/MC; DatasheetVersion: revC, Aug-2009; PackageVersion: revBB, Aug-2009; PackageReference: DFN-MC8; PackageDescription: 8-Lead Plastic Dual Flat, No Lead Package (MC) - 2x3x0.9mm Body [DFN]; Supplier 1: Digi-Key; Supplier Part Number 1: MCP3422A5T-E/MC-ND; Mounting Technology: Surface Mount; ComponentLink1Description: Manufacturer URL; ComponentLink1URL: http://www.microchip.com/; ComponentLink2Description: Datasheet; ComponentLink2URL: http://ww1.microchip.com/downloads/en/DeviceDoc/22088c.pdf; ComponentLink3Description: Package Specification; ComponentLink3URL: http://www.microchip.com/stellent/groups/techpub_sg/documents/packagingspec/en012702.pdf
footprint DFN-MC8 (SON, 8-Leads, Body 2x3mm, Pitch 0.5mm, Microchip Recommended)
pins: 1 CH1+ (in), 2 CH1- (in), 3 VDD (power), 4 SDA (io), 5 SCL (in), 6 VSS (power), 7 CH2+ (in), 8 CH2- (in), 9 EP

## MCP3422A5T-E/MS
designator U?
18-Bit, 4-Channel Analog-to-Digital Converter with I2C Interface and On-Board Reference, 8-pin MSOP, Extended Temperature, Tape and Reel; Manufacturer: Microchip; PartNumber: MCP3422A5T-E/MS; DatasheetVersion: revC, Aug-2009; PackageVersion: revBB, Aug-2009; PackageReference: MSOP-MS8; PackageDescription: 8-Lead Plastic Micro Small Outline Package (MS) [MSOP]; Supplier 1: Digi-Key; Supplier Part Number 1: MCP3422A5T-E/MS-ND; Mounting Technology: Surface Mount; ComponentLink1Description: Manufacturer URL; ComponentLink1URL: http://www.microchip.com/; ComponentLink2Description: Datasheet; ComponentLink2URL: http://ww1.microchip.com/downloads/en/DeviceDoc/22088c.pdf; ComponentLink3Description: Package Specification; ComponentLink3URL: http://www.microchip.com/stellent/groups/techpub_sg/documents/packagingspec/en012702.pdf
footprint MSOP-MS8_N (TSOP, 8-Leads, Body 3x3mm, Pitch 0.65mm, IPC Medium Density)
footprint MSOP-MS8_L (TSOP, 8-Leads, Body 3x3mm, Pitch 0.65mm, IPC High Density)
footprint MSOP-MS8_M (TSOP, 8-Leads, Body 3x3mm, Pitch 0.65mm, IPC Low Density)
pins: 1 CH1+ (in), 2 CH1- (in), 3 VDD (power), 4 SDA (io), 5 SCL (in), 6 VSS (power), 7 CH2+ (in), 8 CH2- (in)

## MCP3422A5T-E/SN
designator U?
18-Bit, 4-Channel Analog-to-Digital Converter with I2C Interface and On-Board Reference, 8-pin SOIC, Extended Temperature, Tape and Reel; Manufacturer: Microchip; PartNumber: MCP3422A5T-E/SN; DatasheetVersion: revC, Aug-2009; PackageVersion: revBB, Aug-2009; PackageReference: SOIC-SN8; PackageDescription: 8-Lead Plastic Small Outline (SN) - Narrow, 3.90mm Body [SOIC]; Supplier 1: Digi-Key; Supplier Part Number 1: MCP3422A5T-E/SN-ND; Mounting Technology: Surface Mount; Code_JEDEC: MS-012; Code_IPC: SOIC127P600-8; ComponentLink1Description: Manufacturer URL; ComponentLink1URL: http://www.microchip.com/; ComponentLink2Description: Datasheet; ComponentLink2URL: http://ww1.microchip.com/downloads/en/DeviceDoc/22088c.pdf; ComponentLink3Description: Package Specification; ComponentLink3URL: http://www.microchip.com/stellent/groups/techpub_sg/documents/packagingspec/en012702.pdf
footprint SOIC-SN8_N (SOIC, 8-Leads, Body 4.9x3.8mm, Pitch 1.27mm, IPC Medium Density)
footprint SOIC-SN8_L (SOIC, 8-Leads, Body 4.9x3.8mm, Pitch 1.27mm, IPC High Density)
footprint SOIC-SN8_M (SOIC, 8-Leads, Body 4.9x3.8mm, Pitch 1.27mm, IPC Low Density)
pins: 1 CH1+ (in), 2 CH1- (in), 3 VDD (power), 4 SDA (io), 5 SCL (in), 6 VSS (power), 7 CH2+ (in), 8 CH2- (in)

## MCP3422A6-E/MC
designator U?
18-Bit, 4-Channel Analog-to-Digital Converter with I2C Interface and On-Board Reference, 8-pin DFN, Extended Temperature; Manufacturer: Microchip; PartNumber: MCP3422A6-E/MC; DatasheetVersion: revC, Aug-2009; PackageVersion: revBB, Aug-2009; PackageReference: DFN-MC8; PackageDescription: 8-Lead Plastic Dual Flat, No Lead Package (MC) - 2x3x0.9mm Body [DFN]; Supplier 1: Digi-Key; Supplier Part Number 1: MCP3422A6-E/MC-ND; Mounting Technology: Surface Mount; ComponentLink1Description: Manufacturer URL; ComponentLink1URL: http://www.microchip.com/; ComponentLink2Description: Datasheet; ComponentLink2URL: http://ww1.microchip.com/downloads/en/DeviceDoc/22088c.pdf; ComponentLink3Description: Package Specification; ComponentLink3URL: http://www.microchip.com/stellent/groups/techpub_sg/documents/packagingspec/en012702.pdf
footprint DFN-MC8 (SON, 8-Leads, Body 2x3mm, Pitch 0.5mm, Microchip Recommended)
pins: 1 CH1+ (in), 2 CH1- (in), 3 VDD (power), 4 SDA (io), 5 SCL (in), 6 VSS (power), 7 CH2+ (in), 8 CH2- (in), 9 EP

## MCP3422A6-E/MS
designator U?
18-Bit, 4-Channel Analog-to-Digital Converter with I2C Interface and On-Board Reference, 8-pin MSOP, Extended Temperature; Manufacturer: Microchip; PartNumber: MCP3422A6-E/MS; DatasheetVersion: revC, Aug-2009; PackageVersion: revBB, Aug-2009; PackageReference: MSOP-MS8; PackageDescription: 8-Lead Plastic Micro Small Outline Package (MS) [MSOP]; Supplier 1: Digi-Key; Supplier Part Number 1: MCP3422A6-E/MS-ND; Mounting Technology: Surface Mount; ComponentLink1Description: Manufacturer URL; ComponentLink1URL: http://www.microchip.com/; ComponentLink2Description: Datasheet; ComponentLink2URL: http://ww1.microchip.com/downloads/en/DeviceDoc/22088c.pdf; ComponentLink3Description: Package Specification; ComponentLink3URL: http://www.microchip.com/stellent/groups/techpub_sg/documents/packagingspec/en012702.pdf
footprint MSOP-MS8_N (TSOP, 8-Leads, Body 3x3mm, Pitch 0.65mm, IPC Medium Density)
footprint MSOP-MS8_L (TSOP, 8-Leads, Body 3x3mm, Pitch 0.65mm, IPC High Density)
footprint MSOP-MS8_M (TSOP, 8-Leads, Body 3x3mm, Pitch 0.65mm, IPC Low Density)
pins: 1 CH1+ (in), 2 CH1- (in), 3 VDD (power), 4 SDA (io), 5 SCL (in), 6 VSS (power), 7 CH2+ (in), 8 CH2- (in)

## MCP3422A6-E/SN
designator U?
18-Bit, 4-Channel Analog-to-Digital Converter with I2C Interface and On-Board Reference, 8-pin SOIC, Extended Temperature; Manufacturer: Microchip; PartNumber: MCP3422A6-E/SN; DatasheetVersion: revC, Aug-2009; PackageVersion: revBB, Aug-2009; PackageReference: SOIC-SN8; PackageDescription: 8-Lead Plastic Small Outline (SN) - Narrow, 3.90mm Body [SOIC]; Supplier 1: Digi-Key; Supplier Part Number 1: MCP3422A6-E/SN-ND; Mounting Technology: Surface Mount; Code_JEDEC: MS-012; Code_IPC: SOIC127P600-8; ComponentLink1Description: Manufacturer URL; ComponentLink1URL: http://www.microchip.com/; ComponentLink2Description: Datasheet; ComponentLink2URL: http://ww1.microchip.com/downloads/en/DeviceDoc/22088c.pdf; ComponentLink3Description: Package Specification; ComponentLink3URL: http://www.microchip.com/stellent/groups/techpub_sg/documents/packagingspec/en012702.pdf
footprint SOIC-SN8_N (SOIC, 8-Leads, Body 4.9x3.8mm, Pitch 1.27mm, IPC Medium Density)
footprint SOIC-SN8_L (SOIC, 8-Leads, Body 4.9x3.8mm, Pitch 1.27mm, IPC High Density)
footprint SOIC-SN8_M (SOIC, 8-Leads, Body 4.9x3.8mm, Pitch 1.27mm, IPC Low Density)
pins: 1 CH1+ (in), 2 CH1- (in), 3 VDD (power), 4 SDA (io), 5 SCL (in), 6 VSS (power), 7 CH2+ (in), 8 CH2- (in)

## MCP3422A6T-E/MC
designator U?
18-Bit, 4-Channel Analog-to-Digital Converter with I2C Interface and On-Board Reference, 8-pin DFN, Extended Temperature, Tape and Reel; Manufacturer: Microchip; PartNumber: MCP3422A6T-E/MC; DatasheetVersion: revC, Aug-2009; PackageVersion: revBB, Aug-2009; PackageReference: DFN-MC8; PackageDescription: 8-Lead Plastic Dual Flat, No Lead Package (MC) - 2x3x0.9mm Body [DFN]; Supplier 1: Digi-Key; Supplier Part Number 1: MCP3422A6T-E/MC-ND; Mounting Technology: Surface Mount; ComponentLink1Description: Manufacturer URL; ComponentLink1URL: http://www.microchip.com/; ComponentLink2Description: Datasheet; ComponentLink2URL: http://ww1.microchip.com/downloads/en/DeviceDoc/22088c.pdf; ComponentLink3Description: Package Specification; ComponentLink3URL: http://www.microchip.com/stellent/groups/techpub_sg/documents/packagingspec/en012702.pdf
footprint DFN-MC8 (SON, 8-Leads, Body 2x3mm, Pitch 0.5mm, Microchip Recommended)
pins: 1 CH1+ (in), 2 CH1- (in), 3 VDD (power), 4 SDA (io), 5 SCL (in), 6 VSS (power), 7 CH2+ (in), 8 CH2- (in), 9 EP

## MCP3422A6T-E/MS
designator U?
18-Bit, 4-Channel Analog-to-Digital Converter with I2C Interface and On-Board Reference, 8-pin MSOP, Extended Temperature, Tape and Reel; Manufacturer: Microchip; PartNumber: MCP3422A6T-E/MS; DatasheetVersion: revC, Aug-2009; PackageVersion: revBB, Aug-2009; PackageReference: MSOP-MS8; PackageDescription: 8-Lead Plastic Micro Small Outline Package (MS) [MSOP]; Supplier 1: Digi-Key; Supplier Part Number 1: MCP3422A6T-E/MS-ND; Mounting Technology: Surface Mount; ComponentLink1Description: Manufacturer URL; ComponentLink1URL: http://www.microchip.com/; ComponentLink2Description: Datasheet; ComponentLink2URL: http://ww1.microchip.com/downloads/en/DeviceDoc/22088c.pdf; ComponentLink3Description: Package Specification; ComponentLink3URL: http://www.microchip.com/stellent/groups/techpub_sg/documents/packagingspec/en012702.pdf
footprint MSOP-MS8_N (TSOP, 8-Leads, Body 3x3mm, Pitch 0.65mm, IPC Medium Density)
footprint MSOP-MS8_L (TSOP, 8-Leads, Body 3x3mm, Pitch 0.65mm, IPC High Density)
footprint MSOP-MS8_M (TSOP, 8-Leads, Body 3x3mm, Pitch 0.65mm, IPC Low Density)
pins: 1 CH1+ (in), 2 CH1- (in), 3 VDD (power), 4 SDA (io), 5 SCL (in), 6 VSS (power), 7 CH2+ (in), 8 CH2- (in)

## MCP3422A6T-E/SN
designator U?
18-Bit, 4-Channel Analog-to-Digital Converter with I2C Interface and On-Board Reference, 8-pin SOIC, Extended Temperature, Tape and Reel; Manufacturer: Microchip; PartNumber: MCP3422A6T-E/SN; DatasheetVersion: revC, Aug-2009; PackageVersion: revBB, Aug-2009; PackageReference: SOIC-SN8; PackageDescription: 8-Lead Plastic Small Outline (SN) - Narrow, 3.90mm Body [SOIC]; Supplier 1: Digi-Key; Supplier Part Number 1: MCP3422A6T-E/SN-ND; Mounting Technology: Surface Mount; Code_JEDEC: MS-012; Code_IPC: SOIC127P600-8; ComponentLink1Description: Manufacturer URL; ComponentLink1URL: http://www.microchip.com/; ComponentLink2Description: Datasheet; ComponentLink2URL: http://ww1.microchip.com/downloads/en/DeviceDoc/22088c.pdf; ComponentLink3Description: Package Specification; ComponentLink3URL: http://www.microchip.com/stellent/groups/techpub_sg/documents/packagingspec/en012702.pdf
footprint SOIC-SN8_N (SOIC, 8-Leads, Body 4.9x3.8mm, Pitch 1.27mm, IPC Medium Density)
footprint SOIC-SN8_L (SOIC, 8-Leads, Body 4.9x3.8mm, Pitch 1.27mm, IPC High Density)
footprint SOIC-SN8_M (SOIC, 8-Leads, Body 4.9x3.8mm, Pitch 1.27mm, IPC Low Density)
pins: 1 CH1+ (in), 2 CH1- (in), 3 VDD (power), 4 SDA (io), 5 SCL (in), 6 VSS (power), 7 CH2+ (in), 8 CH2- (in)

## MCP3422A7-E/MC
designator U?
18-Bit, 4-Channel Analog-to-Digital Converter with I2C Interface and On-Board Reference, 8-pin DFN, Extended Temperature; Manufacturer: Microchip; PartNumber: MCP3422A7-E/MC; DatasheetVersion: revC, Aug-2009; PackageVersion: revBB, Aug-2009; PackageReference: DFN-MC8; PackageDescription: 8-Lead Plastic Dual Flat, No Lead Package (MC) - 2x3x0.9mm Body [DFN]; Supplier 1: Digi-Key; Supplier Part Number 1: MCP3422A7-E/MC-ND; Mounting Technology: Surface Mount; ComponentLink1Description: Manufacturer URL; ComponentLink1URL: http://www.microchip.com/; ComponentLink2Description: Datasheet; ComponentLink2URL: http://ww1.microchip.com/downloads/en/DeviceDoc/22088c.pdf; ComponentLink3Description: Package Specification; ComponentLink3URL: http://www.microchip.com/stellent/groups/techpub_sg/documents/packagingspec/en012702.pdf
footprint DFN-MC8 (SON, 8-Leads, Body 2x3mm, Pitch 0.5mm, Microchip Recommended)
pins: 1 CH1+ (in), 2 CH1- (in), 3 VDD (power), 4 SDA (io), 5 SCL (in), 6 VSS (power), 7 CH2+ (in), 8 CH2- (in), 9 EP

## MCP3422A7-E/MS
designator U?
18-Bit, 4-Channel Analog-to-Digital Converter with I2C Interface and On-Board Reference, 8-pin MSOP, Extended Temperature; Manufacturer: Microchip; PartNumber: MCP3422A7-E/MS; DatasheetVersion: revC, Aug-2009; PackageVersion: revBB, Aug-2009; PackageReference: MSOP-MS8; PackageDescription: 8-Lead Plastic Micro Small Outline Package (MS) [MSOP]; Supplier 1: Digi-Key; Supplier Part Number 1: MCP3422A7-E/MS-ND; Mounting Technology: Surface Mount; ComponentLink1Description: Manufacturer URL; ComponentLink1URL: http://www.microchip.com/; ComponentLink2Description: Datasheet; ComponentLink2URL: http://ww1.microchip.com/downloads/en/DeviceDoc/22088c.pdf; ComponentLink3Description: Package Specification; ComponentLink3URL: http://www.microchip.com/stellent/groups/techpub_sg/documents/packagingspec/en012702.pdf
footprint MSOP-MS8_N (TSOP, 8-Leads, Body 3x3mm, Pitch 0.65mm, IPC Medium Density)
footprint MSOP-MS8_L (TSOP, 8-Leads, Body 3x3mm, Pitch 0.65mm, IPC High Density)
footprint MSOP-MS8_M (TSOP, 8-Leads, Body 3x3mm, Pitch 0.65mm, IPC Low Density)
pins: 1 CH1+ (in), 2 CH1- (in), 3 VDD (power), 4 SDA (io), 5 SCL (in), 6 VSS (power), 7 CH2+ (in), 8 CH2- (in)

## MCP3422A7-E/SN
designator U?
18-Bit, 4-Channel Analog-to-Digital Converter with I2C Interface and On-Board Reference, 8-pin SOIC, Extended Temperature; Manufacturer: Microchip; PartNumber: MCP3422A7-E/SN; DatasheetVersion: revC, Aug-2009; PackageVersion: revBB, Aug-2009; PackageReference: SOIC-SN8; PackageDescription: 8-Lead Plastic Small Outline (SN) - Narrow, 3.90mm Body [SOIC]; Supplier 1: Digi-Key; Supplier Part Number 1: MCP3422A7-E/SN-ND; Mounting Technology: Surface Mount; Code_JEDEC: MS-012; Code_IPC: SOIC127P600-8; ComponentLink1Description: Manufacturer URL; ComponentLink1URL: http://www.microchip.com/; ComponentLink2Description: Datasheet; ComponentLink2URL: http://ww1.microchip.com/downloads/en/DeviceDoc/22088c.pdf; ComponentLink3Description: Package Specification; ComponentLink3URL: http://www.microchip.com/stellent/groups/techpub_sg/documents/packagingspec/en012702.pdf
footprint SOIC-SN8_N (SOIC, 8-Leads, Body 4.9x3.8mm, Pitch 1.27mm, IPC Medium Density)
footprint SOIC-SN8_L (SOIC, 8-Leads, Body 4.9x3.8mm, Pitch 1.27mm, IPC High Density)
footprint SOIC-SN8_M (SOIC, 8-Leads, Body 4.9x3.8mm, Pitch 1.27mm, IPC Low Density)
pins: 1 CH1+ (in), 2 CH1- (in), 3 VDD (power), 4 SDA (io), 5 SCL (in), 6 VSS (power), 7 CH2+ (in), 8 CH2- (in)

## MCP3422A7T-E/MC
designator U?
18-Bit, 4-Channel Analog-to-Digital Converter with I2C Interface and On-Board Reference, 8-pin DFN, Extended Temperature, Tape and Reel; Manufacturer: Microchip; PartNumber: MCP3422A7T-E/MC; DatasheetVersion: revC, Aug-2009; PackageVersion: revBB, Aug-2009; PackageReference: DFN-MC8; PackageDescription: 8-Lead Plastic Dual Flat, No Lead Package (MC) - 2x3x0.9mm Body [DFN]; Supplier 1: Digi-Key; Supplier Part Number 1: MCP3422A7T-E/MC-ND; Mounting Technology: Surface Mount; ComponentLink1Description: Manufacturer URL; ComponentLink1URL: http://www.microchip.com/; ComponentLink2Description: Datasheet; ComponentLink2URL: http://ww1.microchip.com/downloads/en/DeviceDoc/22088c.pdf; ComponentLink3Description: Package Specification; ComponentLink3URL: http://www.microchip.com/stellent/groups/techpub_sg/documents/packagingspec/en012702.pdf
footprint DFN-MC8 (SON, 8-Leads, Body 2x3mm, Pitch 0.5mm, Microchip Recommended)
pins: 1 CH1+ (in), 2 CH1- (in), 3 VDD (power), 4 SDA (io), 5 SCL (in), 6 VSS (power), 7 CH2+ (in), 8 CH2- (in), 9 EP

## MCP3422A7T-E/MS
designator U?
18-Bit, 4-Channel Analog-to-Digital Converter with I2C Interface and On-Board Reference, 8-pin MSOP, Extended Temperature, Tape and Reel; Manufacturer: Microchip; PartNumber: MCP3422A7T-E/MS; DatasheetVersion: revC, Aug-2009; PackageVersion: revBB, Aug-2009; PackageReference: MSOP-MS8; PackageDescription: 8-Lead Plastic Micro Small Outline Package (MS) [MSOP]; Supplier 1: Digi-Key; Supplier Part Number 1: MCP3422A7T-E/MS-ND; Mounting Technology: Surface Mount; ComponentLink1Description: Manufacturer URL; ComponentLink1URL: http://www.microchip.com/; ComponentLink2Description: Datasheet; ComponentLink2URL: http://ww1.microchip.com/downloads/en/DeviceDoc/22088c.pdf; ComponentLink3Description: Package Specification; ComponentLink3URL: http://www.microchip.com/stellent/groups/techpub_sg/documents/packagingspec/en012702.pdf
footprint MSOP-MS8_N (TSOP, 8-Leads, Body 3x3mm, Pitch 0.65mm, IPC Medium Density)
footprint MSOP-MS8_L (TSOP, 8-Leads, Body 3x3mm, Pitch 0.65mm, IPC High Density)
footprint MSOP-MS8_M (TSOP, 8-Leads, Body 3x3mm, Pitch 0.65mm, IPC Low Density)
pins: 1 CH1+ (in), 2 CH1- (in), 3 VDD (power), 4 SDA (io), 5 SCL (in), 6 VSS (power), 7 CH2+ (in), 8 CH2- (in)

## MCP3422A7T-E/SN
designator U?
18-Bit, 4-Channel Analog-to-Digital Converter with I2C Interface and On-Board Reference, 8-pin SOIC, Extended Temperature, Tape and Reel; Manufacturer: Microchip; PartNumber: MCP3422A7T-E/SN; DatasheetVersion: revC, Aug-2009; PackageVersion: revBB, Aug-2009; PackageReference: SOIC-SN8; PackageDescription: 8-Lead Plastic Small Outline (SN) - Narrow, 3.90mm Body [SOIC]; Supplier 1: Digi-Key; Supplier Part Number 1: MCP3422A7T-E/SN-ND; Mounting Technology: Surface Mount; Code_JEDEC: MS-012; Code_IPC: SOIC127P600-8; ComponentLink1Description: Manufacturer URL; ComponentLink1URL: http://www.microchip.com/; ComponentLink2Description: Datasheet; ComponentLink2URL: http://ww1.microchip.com/downloads/en/DeviceDoc/22088c.pdf; ComponentLink3Description: Package Specification; ComponentLink3URL: http://www.microchip.com/stellent/groups/techpub_sg/documents/packagingspec/en012702.pdf
footprint SOIC-SN8_N (SOIC, 8-Leads, Body 4.9x3.8mm, Pitch 1.27mm, IPC Medium Density)
footprint SOIC-SN8_L (SOIC, 8-Leads, Body 4.9x3.8mm, Pitch 1.27mm, IPC High Density)
footprint SOIC-SN8_M (SOIC, 8-Leads, Body 4.9x3.8mm, Pitch 1.27mm, IPC Low Density)
pins: 1 CH1+ (in), 2 CH1- (in), 3 VDD (power), 4 SDA (io), 5 SCL (in), 6 VSS (power), 7 CH2+ (in), 8 CH2- (in)